# Altium schematic symbol library POLYGON_COLORS_TEST.SchLib: 1 symbol
Pins are listed as number, name and electrical type; pins without a type are passive.

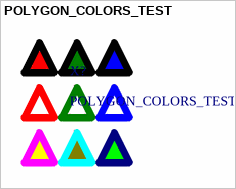
[diagram p0: symbol POLYGON_COLORS_TEST]

## POLYGON_COLORS_TEST
designator X?
Test polygon colors